# Altium footprint library Connector_Phoenix_SPT.PcbLib: 69 footprints (part 2 of 5)
Each footprint in its own frame and in the unit in brackets; x right, y up, seen from the top. Pads: shape width x height; smd on the part's side, far side on the other; paste and mask are expansions set on the pad; w line width, h text height; cw(c..) or ccw(c..) is an arc to the next point about the centre after c.
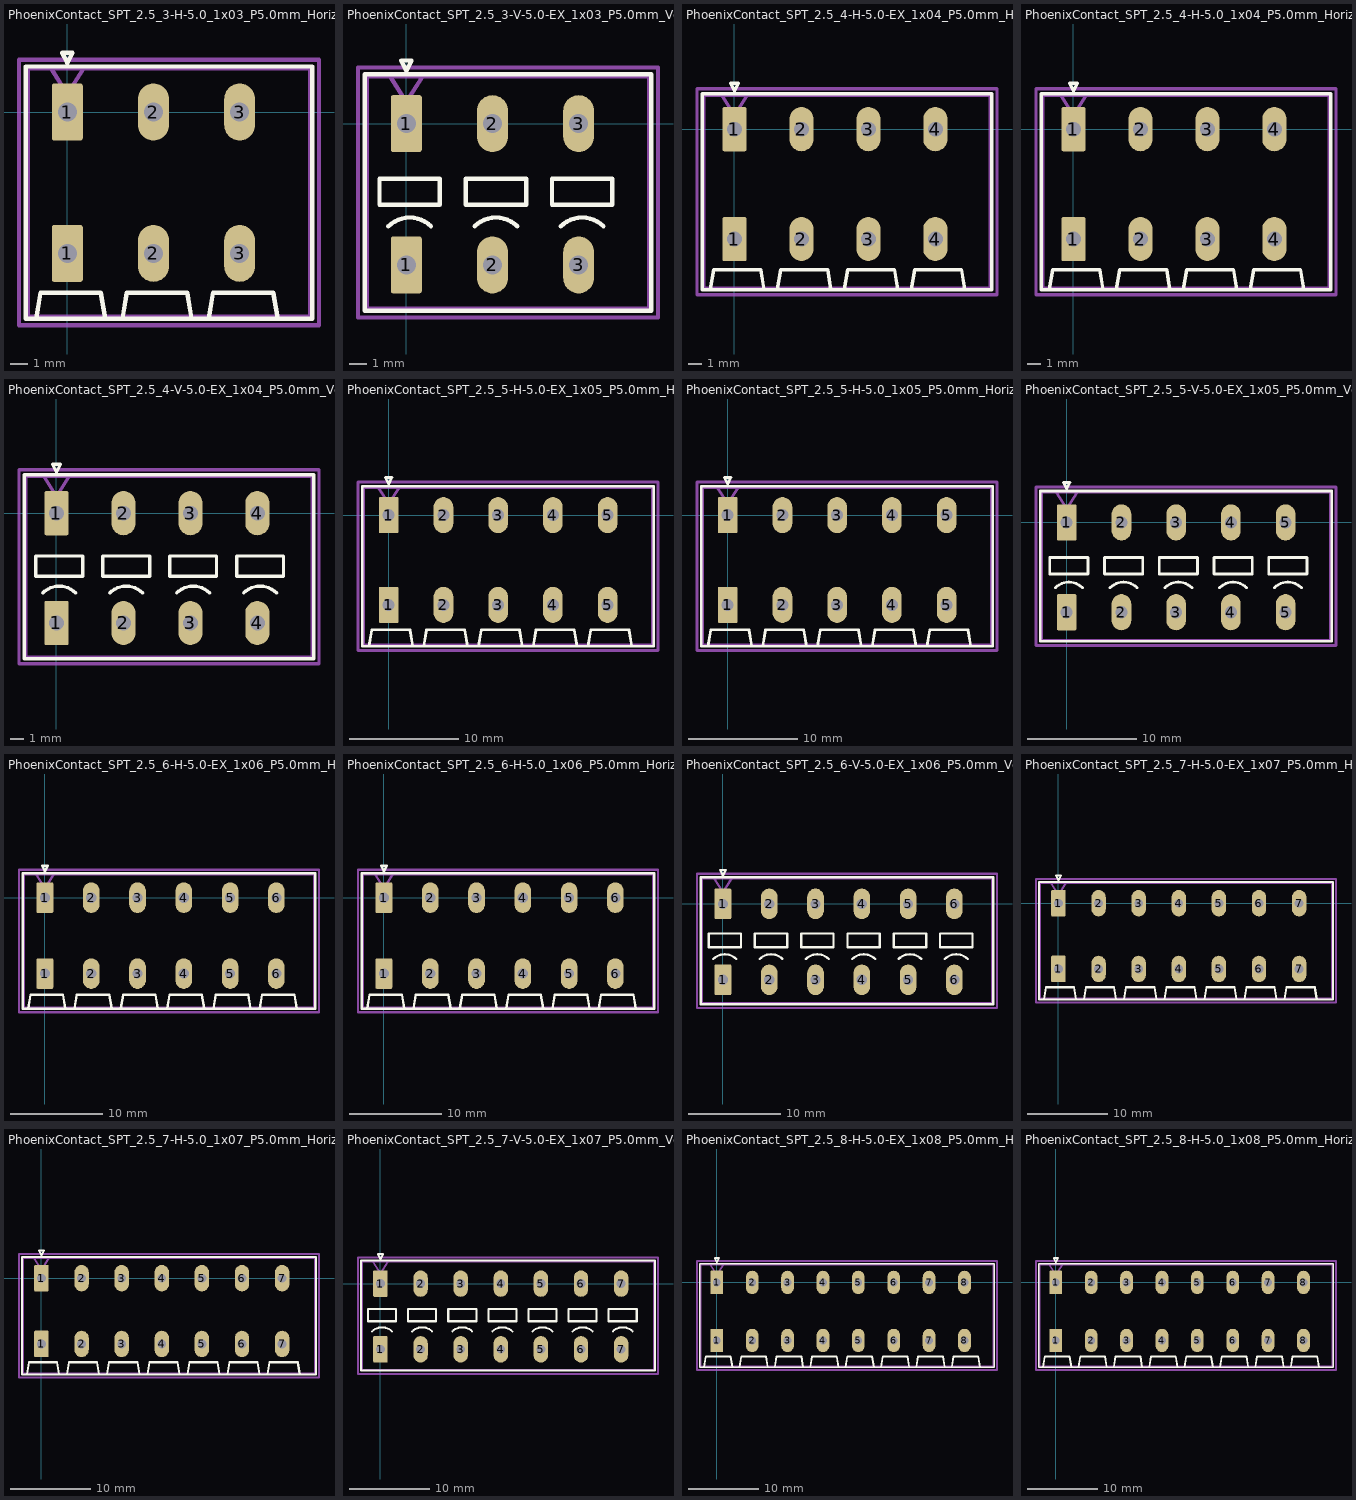
[diagram p1: the footprints below, top view; thin cyan lines are the x and y axes]

## PhoenixContact_SPT_2.5_3-H-5.0_1x03_P5.0mm_Horizontal [mm]
pads (6):
  rrect14% 1.8x3.3 hole 1.1: 1(0,-8.2) 1(0,0)
  rrect100% 1.8x3.3 hole 1.1: 2(5,-8.2) 2(5,0) 3(10,-8.2) 3(10,0)
F.SilkS:
  lines w0.254: -1.8,-11.98 -1.55,-10.48 1.95,-10.48 2.2,-11.98 ; 3.2,-11.98 3.45,-10.48 6.95,-10.48 7.2,-11.98 ; 8.2,-11.98 8.45,-10.48 11.95,-10.48 12.2,-11.98 ; -2.41,-11.98 14.21,-11.98 14.21,2.64 -2.41,2.64 -2.41,-11.98 ; -0.3,3.44 0.3,3.44 0,2.84 -0.3,3.44
Top Assembly:
  lines w0.254: -0.95,2.53 0,1.03 0.95,2.53 ; -2.3,-11.87 14.1,-11.87 14.1,2.53 -2.3,2.53 -2.3,-11.87
  text "'.Designator'" at 1.853,0.99 h1
Top Courtyard:
  lines w0.254: -2.8,-12.37 14.6,-12.37 14.6,3.03 -2.8,3.03 -2.8,-12.37
Top Designator:
  text ".Designator" at -1.718,-4.973 h1.52

## PhoenixContact_SPT_2.5_3-V-5.0-EX_1x03_P5.0mm_Vertical [mm]
pads (6):
  rrect14% 1.8x3.3 hole 1.1: 1(0,-8.2) 1(0,0)
  rrect100% 1.8x3.3 hole 1.1: 2(5,-8.2) 2(5,0) 3(10,-8.2) 3(10,0)
F.SilkS:
  lines w0.254: -1.037,-5.963 cw(c0.2,-7.2) 1.437,-5.963 ; 3.963,-5.963 cw(c5.2,-7.2) 6.437,-5.963 ; 8.963,-5.963 cw(c10.2,-7.2) 11.437,-5.963 ; -2.41,-10.86 14.21,-10.86 14.21,2.86 -2.41,2.86 -2.41,-10.86 ; -1.55,-4.7 1.95,-4.7 1.95,-3.2 -1.55,-3.2 -1.55,-4.7 ; -0.3,3.66 0.3,3.66 0,3.06 -0.3,3.66 ; 3.45,-4.7 6.95,-4.7 6.95,-3.2 3.45,-3.2 3.45,-4.7 ; 8.45,-4.7 11.95,-4.7 11.95,-3.2 8.45,-3.2 8.45,-4.7
Top Assembly:
  lines w0.254: -0.95,2.75 0,1.25 0.95,2.75 ; -2.3,-10.75 14.1,-10.75 14.1,2.75 -2.3,2.75 -2.3,-10.75
  text "'.Designator'" at 1.853,1.21 h1
Top Courtyard:
  lines w0.254: -2.8,-11.25 14.6,-11.25 14.6,3.25 -2.8,3.25 -2.8,-11.25
Top Designator:
  text ".Designator" at -1.718,-4.303 h1.52

## PhoenixContact_SPT_2.5_4-H-5.0-EX_1x04_P5.0mm_Horizontal [mm]
pads (8):
  rrect14% 1.8x3.3 hole 1.1: 1(0,-8.2) 1(0,0)
  rrect100% 1.8x3.3 hole 1.1: 2(5,-8.2) 2(5,0) 3(10,-8.2) 3(10,0) 4(15,-8.2) 4(15,0)
F.SilkS:
  lines w0.254: -1.8,-11.98 -1.55,-10.48 1.95,-10.48 2.2,-11.98 ; 3.2,-11.98 3.45,-10.48 6.95,-10.48 7.2,-11.98 ; 8.2,-11.98 8.45,-10.48 11.95,-10.48 12.2,-11.98 ; 13.2,-11.98 13.45,-10.48 16.95,-10.48 17.2,-11.98 ; -2.41,-11.98 19.21,-11.98 19.21,2.64 -2.41,2.64 -2.41,-11.98 ; -0.3,3.44 0.3,3.44 0,2.84 -0.3,3.44
Top Assembly:
  lines w0.254: -0.95,2.53 0,1.03 0.95,2.53 ; -2.3,-11.87 19.1,-11.87 19.1,2.53 -2.3,2.53 -2.3,-11.87
  text "'.Designator'" at 4.353,0.99 h1
Top Courtyard:
  lines w0.254: -2.8,-12.37 19.6,-12.37 19.6,3.03 -2.8,3.03 -2.8,-12.37
Top Designator:
  text ".Designator" at 0.782,-4.973 h1.52

## PhoenixContact_SPT_2.5_4-H-5.0_1x04_P5.0mm_Horizontal [mm]
pads (8):
  rrect14% 1.8x3.3 hole 1.1: 1(0,-8.2) 1(0,0)
  rrect100% 1.8x3.3 hole 1.1: 2(5,-8.2) 2(5,0) 3(10,-8.2) 3(10,0) 4(15,-8.2) 4(15,0)
F.SilkS:
  lines w0.254: -1.8,-11.98 -1.55,-10.48 1.95,-10.48 2.2,-11.98 ; 3.2,-11.98 3.45,-10.48 6.95,-10.48 7.2,-11.98 ; 8.2,-11.98 8.45,-10.48 11.95,-10.48 12.2,-11.98 ; 13.2,-11.98 13.45,-10.48 16.95,-10.48 17.2,-11.98 ; -2.41,-11.98 19.21,-11.98 19.21,2.64 -2.41,2.64 -2.41,-11.98 ; -0.3,3.44 0.3,3.44 0,2.84 -0.3,3.44
Top Assembly:
  lines w0.254: -0.95,2.53 0,1.03 0.95,2.53 ; -2.3,-11.87 19.1,-11.87 19.1,2.53 -2.3,2.53 -2.3,-11.87
  text "'.Designator'" at 4.353,0.99 h1
Top Courtyard:
  lines w0.254: -2.8,-12.37 19.6,-12.37 19.6,3.03 -2.8,3.03 -2.8,-12.37
Top Designator:
  text ".Designator" at 0.782,-4.973 h1.52

## PhoenixContact_SPT_2.5_4-V-5.0-EX_1x04_P5.0mm_Vertical [mm]
pads (8):
  rrect14% 1.8x3.3 hole 1.1: 1(0,-8.2) 1(0,0)
  rrect100% 1.8x3.3 hole 1.1: 2(5,-8.2) 2(5,0) 3(10,-8.2) 3(10,0) 4(15,-8.2) 4(15,0)
F.SilkS:
  lines w0.254: -1.037,-5.963 cw(c0.2,-7.2) 1.437,-5.963 ; 3.963,-5.963 cw(c5.2,-7.2) 6.437,-5.963 ; 8.963,-5.963 cw(c10.2,-7.2) 11.437,-5.963 ; 13.963,-5.963 cw(c15.2,-7.2) 16.437,-5.963 ; -2.41,-10.86 19.21,-10.86 19.21,2.86 -2.41,2.86 -2.41,-10.86 ; -1.55,-4.7 1.95,-4.7 1.95,-3.2 -1.55,-3.2 -1.55,-4.7 ; -0.3,3.66 0.3,3.66 0,3.06 -0.3,3.66 ; 3.45,-4.7 6.95,-4.7 6.95,-3.2 3.45,-3.2 3.45,-4.7 ; 8.45,-4.7 11.95,-4.7 11.95,-3.2 8.45,-3.2 8.45,-4.7 ; 13.45,-4.7 16.95,-4.7 16.95,-3.2 13.45,-3.2 13.45,-4.7
Top Assembly:
  lines w0.254: -0.95,2.75 0,1.25 0.95,2.75 ; -2.3,-10.75 19.1,-10.75 19.1,2.75 -2.3,2.75 -2.3,-10.75
  text "'.Designator'" at 4.353,1.21 h1
Top Courtyard:
  lines w0.254: -2.8,-11.25 19.6,-11.25 19.6,3.25 -2.8,3.25 -2.8,-11.25
Top Designator:
  text ".Designator" at 0.782,-4.303 h1.52

## PhoenixContact_SPT_2.5_5-H-5.0-EX_1x05_P5.0mm_Horizontal [mm]
pads (10):
  rrect14% 1.8x3.3 hole 1.1: 1(0,-8.2) 1(0,0)
  rrect100% 1.8x3.3 hole 1.1: 2(5,-8.2) 2(5,0) 3(10,-8.2) 3(10,0) 4(15,-8.2) 4(15,0) 5(20,-8.2) 5(20,0)
F.SilkS:
  lines w0.254: -1.8,-11.98 -1.55,-10.48 1.95,-10.48 2.2,-11.98 ; 3.2,-11.98 3.45,-10.48 6.95,-10.48 7.2,-11.98 ; 8.2,-11.98 8.45,-10.48 11.95,-10.48 12.2,-11.98 ; 13.2,-11.98 13.45,-10.48 16.95,-10.48 17.2,-11.98 ; 18.2,-11.98 18.45,-10.48 21.95,-10.48 22.2,-11.98 ; -2.41,-11.98 24.21,-11.98 24.21,2.64 -2.41,2.64 -2.41,-11.98 ; -0.3,3.44 0.3,3.44 0,2.84 -0.3,3.44
Top Assembly:
  lines w0.254: -0.95,2.53 0,1.03 0.95,2.53 ; -2.3,-11.87 24.1,-11.87 24.1,2.53 -2.3,2.53 -2.3,-11.87
  text "'.Designator'" at 6.853,0.99 h1
Top Courtyard:
  lines w0.254: -2.8,-12.37 24.6,-12.37 24.6,3.03 -2.8,3.03 -2.8,-12.37
Top Designator:
  text ".Designator" at 3.282,-4.973 h1.52

## PhoenixContact_SPT_2.5_5-H-5.0_1x05_P5.0mm_Horizontal [mm]
pads (10):
  rrect14% 1.8x3.3 hole 1.1: 1(0,-8.2) 1(0,0)
  rrect100% 1.8x3.3 hole 1.1: 2(5,-8.2) 2(5,0) 3(10,-8.2) 3(10,0) 4(15,-8.2) 4(15,0) 5(20,-8.2) 5(20,0)
F.SilkS:
  lines w0.254: -1.8,-11.98 -1.55,-10.48 1.95,-10.48 2.2,-11.98 ; 3.2,-11.98 3.45,-10.48 6.95,-10.48 7.2,-11.98 ; 8.2,-11.98 8.45,-10.48 11.95,-10.48 12.2,-11.98 ; 13.2,-11.98 13.45,-10.48 16.95,-10.48 17.2,-11.98 ; 18.2,-11.98 18.45,-10.48 21.95,-10.48 22.2,-11.98 ; -2.41,-11.98 24.21,-11.98 24.21,2.64 -2.41,2.64 -2.41,-11.98 ; -0.3,3.44 0.3,3.44 0,2.84 -0.3,3.44
Top Assembly:
  lines w0.254: -0.95,2.53 0,1.03 0.95,2.53 ; -2.3,-11.87 24.1,-11.87 24.1,2.53 -2.3,2.53 -2.3,-11.87
  text "'.Designator'" at 6.853,0.99 h1
Top Courtyard:
  lines w0.254: -2.8,-12.37 24.6,-12.37 24.6,3.03 -2.8,3.03 -2.8,-12.37
Top Designator:
  text ".Designator" at 3.282,-4.973 h1.52

## PhoenixContact_SPT_2.5_5-V-5.0-EX_1x05_P5.0mm_Vertical [mm]
pads (10):
  rrect14% 1.8x3.3 hole 1.1: 1(0,-8.2) 1(0,0)
  rrect100% 1.8x3.3 hole 1.1: 2(5,-8.2) 2(5,0) 3(10,-8.2) 3(10,0) 4(15,-8.2) 4(15,0) 5(20,-8.2) 5(20,0)
F.SilkS:
  lines w0.254: -1.037,-5.963 cw(c0.2,-7.2) 1.437,-5.963 ; 3.963,-5.963 cw(c5.2,-7.2) 6.437,-5.963 ; 8.963,-5.963 cw(c10.2,-7.2) 11.437,-5.963 ; 13.963,-5.963 cw(c15.2,-7.2) 16.437,-5.963 ; 18.963,-5.963 cw(c20.2,-7.2) 21.437,-5.963 ; -2.41,-10.86 24.21,-10.86 24.21,2.86 -2.41,2.86 -2.41,-10.86 ; -1.55,-4.7 1.95,-4.7 1.95,-3.2 -1.55,-3.2 -1.55,-4.7 ; -0.3,3.66 0.3,3.66 0,3.06 -0.3,3.66 ; 3.45,-4.7 6.95,-4.7 6.95,-3.2 3.45,-3.2 3.45,-4.7 ; 8.45,-4.7 11.95,-4.7 11.95,-3.2 8.45,-3.2 8.45,-4.7 ; 13.45,-4.7 16.95,-4.7 16.95,-3.2 13.45,-3.2 13.45,-4.7 ; 18.45,-4.7 21.95,-4.7 21.95,-3.2 18.45,-3.2 18.45,-4.7
Top Assembly:
  lines w0.254: -0.95,2.75 0,1.25 0.95,2.75 ; -2.3,-10.75 24.1,-10.75 24.1,2.75 -2.3,2.75 -2.3,-10.75
  text "'.Designator'" at 6.853,1.21 h1
Top Courtyard:
  lines w0.254: -2.8,-11.25 24.6,-11.25 24.6,3.25 -2.8,3.25 -2.8,-11.25
Top Designator:
  text ".Designator" at 3.282,-4.303 h1.52

## PhoenixContact_SPT_2.5_6-H-5.0-EX_1x06_P5.0mm_Horizontal [mm]
pads (12):
  rrect14% 1.8x3.3 hole 1.1: 1(0,-8.2) 1(0,0)
  rrect100% 1.8x3.3 hole 1.1: 2(5,-8.2) 2(5,0) 3(10,-8.2) 3(10,0) 4(15,-8.2) 4(15,0) 5(20,-8.2) 5(20,0) 6(25,-8.2) 6(25,0)
F.SilkS:
  lines w0.254: -1.8,-11.98 -1.55,-10.48 1.95,-10.48 2.2,-11.98 ; 3.2,-11.98 3.45,-10.48 6.95,-10.48 7.2,-11.98 ; 8.2,-11.98 8.45,-10.48 11.95,-10.48 12.2,-11.98 ; 13.2,-11.98 13.45,-10.48 16.95,-10.48 17.2,-11.98 ; 18.2,-11.98 18.45,-10.48 21.95,-10.48 22.2,-11.98 ; 23.2,-11.98 23.45,-10.48 26.95,-10.48 27.2,-11.98 ; -2.41,-11.98 29.21,-11.98 29.21,2.64 -2.41,2.64 -2.41,-11.98 ; -0.3,3.44 0.3,3.44 0,2.84 -0.3,3.44
Top Assembly:
  lines w0.254: -0.95,2.53 0,1.03 0.95,2.53 ; -2.3,-11.87 29.1,-11.87 29.1,2.53 -2.3,2.53 -2.3,-11.87
  text "'.Designator'" at 9.353,0.99 h1
Top Courtyard:
  lines w0.254: -2.8,-12.37 29.6,-12.37 29.6,3.03 -2.8,3.03 -2.8,-12.37
Top Designator:
  text ".Designator" at 5.782,-4.973 h1.52

## PhoenixContact_SPT_2.5_6-H-5.0_1x06_P5.0mm_Horizontal [mm]
pads (12):
  rrect14% 1.8x3.3 hole 1.1: 1(0,-8.2) 1(0,0)
  rrect100% 1.8x3.3 hole 1.1: 2(5,-8.2) 2(5,0) 3(10,-8.2) 3(10,0) 4(15,-8.2) 4(15,0) 5(20,-8.2) 5(20,0) 6(25,-8.2) 6(25,0)
F.SilkS:
  lines w0.254: -1.8,-11.98 -1.55,-10.48 1.95,-10.48 2.2,-11.98 ; 3.2,-11.98 3.45,-10.48 6.95,-10.48 7.2,-11.98 ; 8.2,-11.98 8.45,-10.48 11.95,-10.48 12.2,-11.98 ; 13.2,-11.98 13.45,-10.48 16.95,-10.48 17.2,-11.98 ; 18.2,-11.98 18.45,-10.48 21.95,-10.48 22.2,-11.98 ; 23.2,-11.98 23.45,-10.48 26.95,-10.48 27.2,-11.98 ; -2.41,-11.98 29.21,-11.98 29.21,2.64 -2.41,2.64 -2.41,-11.98 ; -0.3,3.44 0.3,3.44 0,2.84 -0.3,3.44
Top Assembly:
  lines w0.254: -0.95,2.53 0,1.03 0.95,2.53 ; -2.3,-11.87 29.1,-11.87 29.1,2.53 -2.3,2.53 -2.3,-11.87
  text "'.Designator'" at 9.353,0.99 h1
Top Courtyard:
  lines w0.254: -2.8,-12.37 29.6,-12.37 29.6,3.03 -2.8,3.03 -2.8,-12.37
Top Designator:
  text ".Designator" at 5.782,-4.973 h1.52

## PhoenixContact_SPT_2.5_6-V-5.0-EX_1x06_P5.0mm_Vertical [mm]
pads (12):
  rrect14% 1.8x3.3 hole 1.1: 1(0,-8.2) 1(0,0)
  rrect100% 1.8x3.3 hole 1.1: 2(5,-8.2) 2(5,0) 3(10,-8.2) 3(10,0) 4(15,-8.2) 4(15,0) 5(20,-8.2) 5(20,0) 6(25,-8.2) 6(25,0)
F.SilkS:
  lines w0.254: -1.037,-5.963 cw(c0.2,-7.2) 1.437,-5.963 ; 3.963,-5.963 cw(c5.2,-7.2) 6.437,-5.963 ; 8.963,-5.963 cw(c10.2,-7.2) 11.437,-5.963 ; 13.963,-5.963 cw(c15.2,-7.2) 16.437,-5.963 ; 18.963,-5.963 cw(c20.2,-7.2) 21.437,-5.963 ; 23.963,-5.963 cw(c25.2,-7.2) 26.437,-5.963 ; -2.41,-10.86 29.21,-10.86 29.21,2.86 -2.41,2.86 -2.41,-10.86 ; -1.55,-4.7 1.95,-4.7 1.95,-3.2 -1.55,-3.2 -1.55,-4.7 ; -0.3,3.66 0.3,3.66 0,3.06 -0.3,3.66 ; 3.45,-4.7 6.95,-4.7 6.95,-3.2 3.45,-3.2 3.45,-4.7 ; 8.45,-4.7 11.95,-4.7 11.95,-3.2 8.45,-3.2 8.45,-4.7 ; 13.45,-4.7 16.95,-4.7 16.95,-3.2 13.45,-3.2 13.45,-4.7 ; 18.45,-4.7 21.95,-4.7 21.95,-3.2 18.45,-3.2 18.45,-4.7 ; 23.45,-4.7 26.95,-4.7 26.95,-3.2 23.45,-3.2 23.45,-4.7
Top Assembly:
  lines w0.254: -0.95,2.75 0,1.25 0.95,2.75 ; -2.3,-10.75 29.1,-10.75 29.1,2.75 -2.3,2.75 -2.3,-10.75
  text "'.Designator'" at 9.353,1.21 h1
Top Courtyard:
  lines w0.254: -2.8,-11.25 29.6,-11.25 29.6,3.25 -2.8,3.25 -2.8,-11.25
Top Designator:
  text ".Designator" at 5.782,-4.303 h1.52

## PhoenixContact_SPT_2.5_7-H-5.0-EX_1x07_P5.0mm_Horizontal [mm]
pads (14):
  rrect14% 1.8x3.3 hole 1.1: 1(0,-8.2) 1(0,0)
  rrect100% 1.8x3.3 hole 1.1: 2(5,-8.2) 2(5,0) 3(10,-8.2) 3(10,0) 4(15,-8.2) 4(15,0) 5(20,-8.2) 5(20,0) 6(25,-8.2) 6(25,0) 7(30,-8.2) 7(30,0)
F.SilkS:
  lines w0.254: -1.8,-11.98 -1.55,-10.48 1.95,-10.48 2.2,-11.98 ; 3.2,-11.98 3.45,-10.48 6.95,-10.48 7.2,-11.98 ; 8.2,-11.98 8.45,-10.48 11.95,-10.48 12.2,-11.98 ; 13.2,-11.98 13.45,-10.48 16.95,-10.48 17.2,-11.98 ; 18.2,-11.98 18.45,-10.48 21.95,-10.48 22.2,-11.98 ; 23.2,-11.98 23.45,-10.48 26.95,-10.48 27.2,-11.98 ; 28.2,-11.98 28.45,-10.48 31.95,-10.48 32.2,-11.98 ; -2.41,-11.98 34.21,-11.98 34.21,2.64 -2.41,2.64 -2.41,-11.98 ; -0.3,3.44 0.3,3.44 0,2.84 -0.3,3.44
Top Assembly:
  lines w0.254: -0.95,2.53 0,1.03 0.95,2.53 ; -2.3,-11.87 34.1,-11.87 34.1,2.53 -2.3,2.53 -2.3,-11.87
  text "'.Designator'" at 11.853,0.99 h1
Top Courtyard:
  lines w0.254: -2.8,-12.37 34.6,-12.37 34.6,3.03 -2.8,3.03 -2.8,-12.37
Top Designator:
  text ".Designator" at 8.282,-4.973 h1.52

## PhoenixContact_SPT_2.5_7-H-5.0_1x07_P5.0mm_Horizontal [mm]
pads (14):
  rrect14% 1.8x3.3 hole 1.1: 1(0,-8.2) 1(0,0)
  rrect100% 1.8x3.3 hole 1.1: 2(5,-8.2) 2(5,0) 3(10,-8.2) 3(10,0) 4(15,-8.2) 4(15,0) 5(20,-8.2) 5(20,0) 6(25,-8.2) 6(25,0) 7(30,-8.2) 7(30,0)
F.SilkS:
  lines w0.254: -1.8,-11.98 -1.55,-10.48 1.95,-10.48 2.2,-11.98 ; 3.2,-11.98 3.45,-10.48 6.95,-10.48 7.2,-11.98 ; 8.2,-11.98 8.45,-10.48 11.95,-10.48 12.2,-11.98 ; 13.2,-11.98 13.45,-10.48 16.95,-10.48 17.2,-11.98 ; 18.2,-11.98 18.45,-10.48 21.95,-10.48 22.2,-11.98 ; 23.2,-11.98 23.45,-10.48 26.95,-10.48 27.2,-11.98 ; 28.2,-11.98 28.45,-10.48 31.95,-10.48 32.2,-11.98 ; -2.41,-11.98 34.21,-11.98 34.21,2.64 -2.41,2.64 -2.41,-11.98 ; -0.3,3.44 0.3,3.44 0,2.84 -0.3,3.44
Top Assembly:
  lines w0.254: -0.95,2.53 0,1.03 0.95,2.53 ; -2.3,-11.87 34.1,-11.87 34.1,2.53 -2.3,2.53 -2.3,-11.87
  text "'.Designator'" at 11.853,0.99 h1
Top Courtyard:
  lines w0.254: -2.8,-12.37 34.6,-12.37 34.6,3.03 -2.8,3.03 -2.8,-12.37
Top Designator:
  text ".Designator" at 8.282,-4.973 h1.52

## PhoenixContact_SPT_2.5_7-V-5.0-EX_1x07_P5.0mm_Vertical [mm]
pads (14):
  rrect14% 1.8x3.3 hole 1.1: 1(0,-8.2) 1(0,0)
  rrect100% 1.8x3.3 hole 1.1: 2(5,-8.2) 2(5,0) 3(10,-8.2) 3(10,0) 4(15,-8.2) 4(15,0) 5(20,-8.2) 5(20,0) 6(25,-8.2) 6(25,0) 7(30,-8.2) 7(30,0)
F.SilkS:
  lines w0.254: -1.037,-5.963 cw(c0.2,-7.2) 1.437,-5.963 ; 3.963,-5.963 cw(c5.2,-7.2) 6.437,-5.963 ; 8.963,-5.963 cw(c10.2,-7.2) 11.437,-5.963 ; 13.963,-5.963 cw(c15.2,-7.2) 16.437,-5.963 ; 18.963,-5.963 cw(c20.2,-7.2) 21.437,-5.963 ; 23.963,-5.963 cw(c25.2,-7.2) 26.437,-5.963 ; 28.963,-5.963 cw(c30.2,-7.2) 31.437,-5.963 ; -2.41,-10.86 34.21,-10.86 34.21,2.86 -2.41,2.86 -2.41,-10.86 ; -1.55,-4.7 1.95,-4.7 1.95,-3.2 -1.55,-3.2 -1.55,-4.7 ; -0.3,3.66 0.3,3.66 0,3.06 -0.3,3.66 ; 3.45,-4.7 6.95,-4.7 6.95,-3.2 3.45,-3.2 3.45,-4.7 ; 8.45,-4.7 11.95,-4.7 11.95,-3.2 8.45,-3.2 8.45,-4.7 ; 13.45,-4.7 16.95,-4.7 16.95,-3.2 13.45,-3.2 13.45,-4.7 ; 18.45,-4.7 21.95,-4.7 21.95,-3.2 18.45,-3.2 18.45,-4.7 ; 23.45,-4.7 26.95,-4.7 26.95,-3.2 23.45,-3.2 23.45,-4.7 ; 28.45,-4.7 31.95,-4.7 31.95,-3.2 28.45,-3.2 28.45,-4.7
Top Assembly:
  lines w0.254: -0.95,2.75 0,1.25 0.95,2.75 ; -2.3,-10.75 34.1,-10.75 34.1,2.75 -2.3,2.75 -2.3,-10.75
  text "'.Designator'" at 11.853,1.21 h1
Top Courtyard:
  lines w0.254: -2.8,-11.25 34.6,-11.25 34.6,3.25 -2.8,3.25 -2.8,-11.25
Top Designator:
  text ".Designator" at 8.282,-4.303 h1.52

## PhoenixContact_SPT_2.5_8-H-5.0-EX_1x08_P5.0mm_Horizontal [mm]
pads (16):
  rrect14% 1.8x3.3 hole 1.1: 1(0,-8.2) 1(0,0)
  rrect100% 1.8x3.3 hole 1.1: 2(5,-8.2) 2(5,0) 3(10,-8.2) 3(10,0) 4(15,-8.2) 4(15,0) 5(20,-8.2) 5(20,0) 6(25,-8.2) 6(25,0) 7(30,-8.2) 7(30,0) 8(35,-8.2) 8(35,0)
F.SilkS:
  lines w0.254: -1.8,-11.98 -1.55,-10.48 1.95,-10.48 2.2,-11.98 ; 3.2,-11.98 3.45,-10.48 6.95,-10.48 7.2,-11.98 ; 8.2,-11.98 8.45,-10.48 11.95,-10.48 12.2,-11.98 ; 13.2,-11.98 13.45,-10.48 16.95,-10.48 17.2,-11.98 ; 18.2,-11.98 18.45,-10.48 21.95,-10.48 22.2,-11.98 ; 23.2,-11.98 23.45,-10.48 26.95,-10.48 27.2,-11.98 ; 28.2,-11.98 28.45,-10.48 31.95,-10.48 32.2,-11.98 ; 33.2,-11.98 33.45,-10.48 36.95,-10.48 37.2,-11.98 ; -2.41,-11.98 39.21,-11.98 39.21,2.64 -2.41,2.64 -2.41,-11.98 ; -0.3,3.44 0.3,3.44 0,2.84 -0.3,3.44
Top Assembly:
  lines w0.254: -0.95,2.53 0,1.03 0.95,2.53 ; -2.3,-11.87 39.1,-11.87 39.1,2.53 -2.3,2.53 -2.3,-11.87
  text "'.Designator'" at 14.353,0.99 h1
Top Courtyard:
  lines w0.254: -2.8,-12.37 39.6,-12.37 39.6,3.03 -2.8,3.03 -2.8,-12.37
Top Designator:
  text ".Designator" at 10.782,-4.973 h1.52

## PhoenixContact_SPT_2.5_8-H-5.0_1x08_P5.0mm_Horizontal [mm]
pads (16):
  rrect14% 1.8x3.3 hole 1.1: 1(0,-8.2) 1(0,0)
  rrect100% 1.8x3.3 hole 1.1: 2(5,-8.2) 2(5,0) 3(10,-8.2) 3(10,0) 4(15,-8.2) 4(15,0) 5(20,-8.2) 5(20,0) 6(25,-8.2) 6(25,0) 7(30,-8.2) 7(30,0) 8(35,-8.2) 8(35,0)
F.SilkS:
  lines w0.254: -1.8,-11.98 -1.55,-10.48 1.95,-10.48 2.2,-11.98 ; 3.2,-11.98 3.45,-10.48 6.95,-10.48 7.2,-11.98 ; 8.2,-11.98 8.45,-10.48 11.95,-10.48 12.2,-11.98 ; 13.2,-11.98 13.45,-10.48 16.95,-10.48 17.2,-11.98 ; 18.2,-11.98 18.45,-10.48 21.95,-10.48 22.2,-11.98 ; 23.2,-11.98 23.45,-10.48 26.95,-10.48 27.2,-11.98 ; 28.2,-11.98 28.45,-10.48 31.95,-10.48 32.2,-11.98 ; 33.2,-11.98 33.45,-10.48 36.95,-10.48 37.2,-11.98 ; -2.41,-11.98 39.21,-11.98 39.21,2.64 -2.41,2.64 -2.41,-11.98 ; -0.3,3.44 0.3,3.44 0,2.84 -0.3,3.44
Top Assembly:
  lines w0.254: -0.95,2.53 0,1.03 0.95,2.53 ; -2.3,-11.87 39.1,-11.87 39.1,2.53 -2.3,2.53 -2.3,-11.87
  text "'.Designator'" at 14.353,0.99 h1
Top Courtyard:
  lines w0.254: -2.8,-12.37 39.6,-12.37 39.6,3.03 -2.8,3.03 -2.8,-12.37
Top Designator:
  text ".Designator" at 10.782,-4.973 h1.52